# Altium footprint library 05E_Capacitor.PcbLib: 4 footprints
Each footprint in its own frame and in the unit in brackets; x right, y up, seen from the top. Pads: shape width x height; smd on the part's side, far side on the other; paste and mask are expansions set on the pad; w line width, h text height; cw(c..) or ccw(c..) is an arc to the next point about the centre after c.
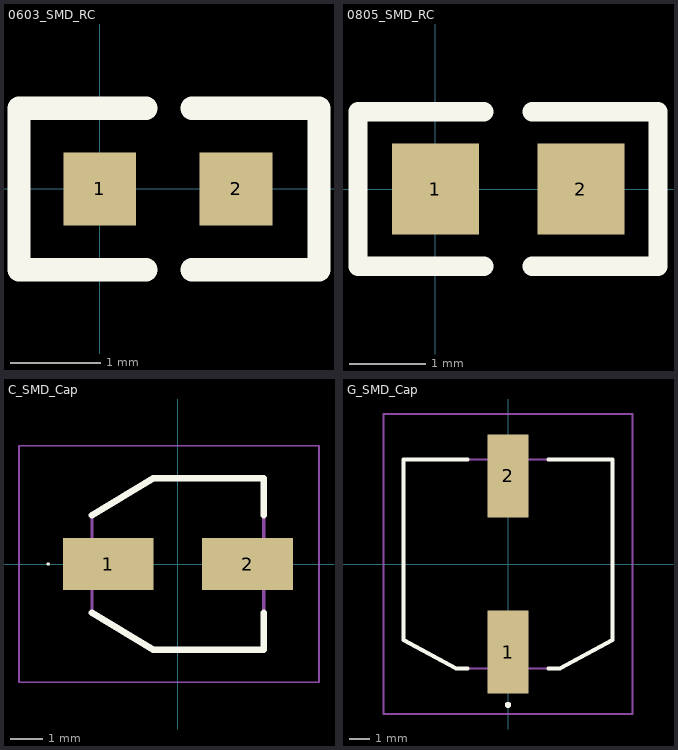
[diagram p0: the footprints below, top view; thin cyan lines are the x and y axes]

## 0603_SMD_RC [mm]
pads (2):
  rect 0.8x0.8 smd: 1(0,0) 2(1.5,0)
Top Overlay:
  lines w0.254: 0.508,-0.889 -0.889,-0.889 -0.889,0.889 0.508,0.889 ; 1.016,-0.889 2.413,-0.889 2.413,0.889 1.016,0.889

## 0805_SMD_RC [mm]
pads (2):
  rect 1.14x1.2 smd: 1(0,0) 2(1.91,0)
Top Overlay:
  lines w0.254: 0.635,-1.016 -1.016,-1.016 -1.016,1.016 0.635,1.016 ; 1.27,-1.016 2.921,-1.016 2.921,1.016 1.27,1.016

## C_SMD_Cap [mm]
pads (2):
  rect 2.8x1.6 smd: 1(-2.15,0) 2(2.15,0)
Top Overlay:
  lines w0.05: -4.025,0 ccw(c-4,0) -3.975,0 ccw(c-4,0) -4.025,0
  lines w0.2: -2.65,-1.5 -0.75,-2.65 2.65,-2.65 2.65,-1.5 ; -2.65,1.5 -0.75,2.65 2.65,2.65 2.65,1.5
Top Courtyard:
  lines w0.1: -2.65,1.5 -0.75,2.65 ; -2.65,1.5 -2.65,-1.5 -0.75,-2.65 2.65,-2.65 2.65,2.65 -0.75,2.65 ; -2.65,1.5 -0.75,2.65
Bottom Assembly:
  lines w0.05: -4.9,-3.65 4.35,-3.65 4.35,3.65 -4.9,3.65 -4.9,-3.65
3D body "EEH-ZA1E220R.stp": height 5.8, standoff 0, extent -3,-2.65 3,2.65

## G_SMD_Cap [mm]
pads (2):
  rect 2x4.1 smd: 1(0,-4.35) 2(0,4.35)
Top Overlay:
  lines w0.2: -2,-5.15 -2.575,-5.15 -5.15,-3.75 -5.15,5.15 -2,5.15 ; 2,-5.15 2.575,-5.15 5.15,-3.75 5.15,5.15 2,5.15 ; 0,-7 cw(c0,-6.95) 0,-6.9 ; 0,-7 ccw(c0,-6.95) 0,-6.9 ; 0,-7 cw(c0,-6.95) 0,-6.9
Top Courtyard:
  lines w0.1: -5.15,-3.75 -2.575,-5.15 2.575,-5.15 5.15,-3.75 5.15,5.15 -5.15,5.15 -5.15,-3.75
Bottom Assembly:
  lines w0.1: -6.15,-7.4 -6.15,7.4 6.15,7.4 6.15,-7.4 -6.15,-7.4
3D body "EEH-ZT1H101P.stp": height 10.3, standoff 0.1, extent -5.15,-5.85 5.15,5.85